# EAGLE library part TMP100 (library chlk_bot)
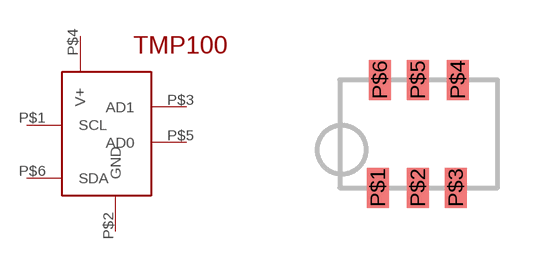
[diagram p9: symbol with the pads of PSOP-6; footprint PSOP-6]

Designator prefix -

## TMP100  [PSOP-6]
P$1  SCL
P$2  GND
P$3  AD1
P$4  V+
P$5  AD0
P$6  SDA

## Footprint PSOP-6 (pad centres in mm)
smd 0.55 x 1: P$1 -1,0; P$2 0,0; P$3 0.95,0; P$4 1,2.7; P$5 0,2.7; P$6 -0.95,2.7